# Altium schematic symbol library AdaptateurDip.SchLib: 3 symbols
Pins are listed as number, name and electrical type; pins without a type are passive.

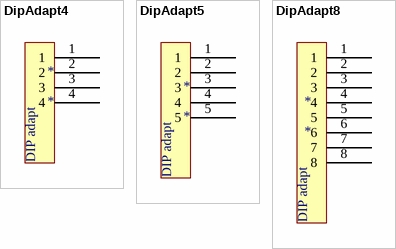
[diagram p0: symbols DipAdapt4 to DipAdapt8]

## DipAdapt4
designator *
footprint ADAPTATEURDIP4
pins: 1, 2, 3, 4
text: DIP adapt

## DipAdapt5
designator *
footprint ADAPTATEURDIP5
pins: 1, 2, 3, 4, 5
text: DIP adapt

## DipAdapt8
designator *
footprint AdaptateurDIP8
pins: 1, 2, 3, 4, 5, 6, 7, 8
text: DIP adapt